# Altium footprint library NB.PcbLib: 18 footprints (part 1 of 2)
Each footprint in its own frame and in the unit in brackets; x right, y up, seen from the top. Pads: shape width x height; smd on the part's side, far side on the other; paste and mask are expansions set on the pad; w line width, h text height; cw(c..) or ccw(c..) is an arc to the next point about the centre after c.
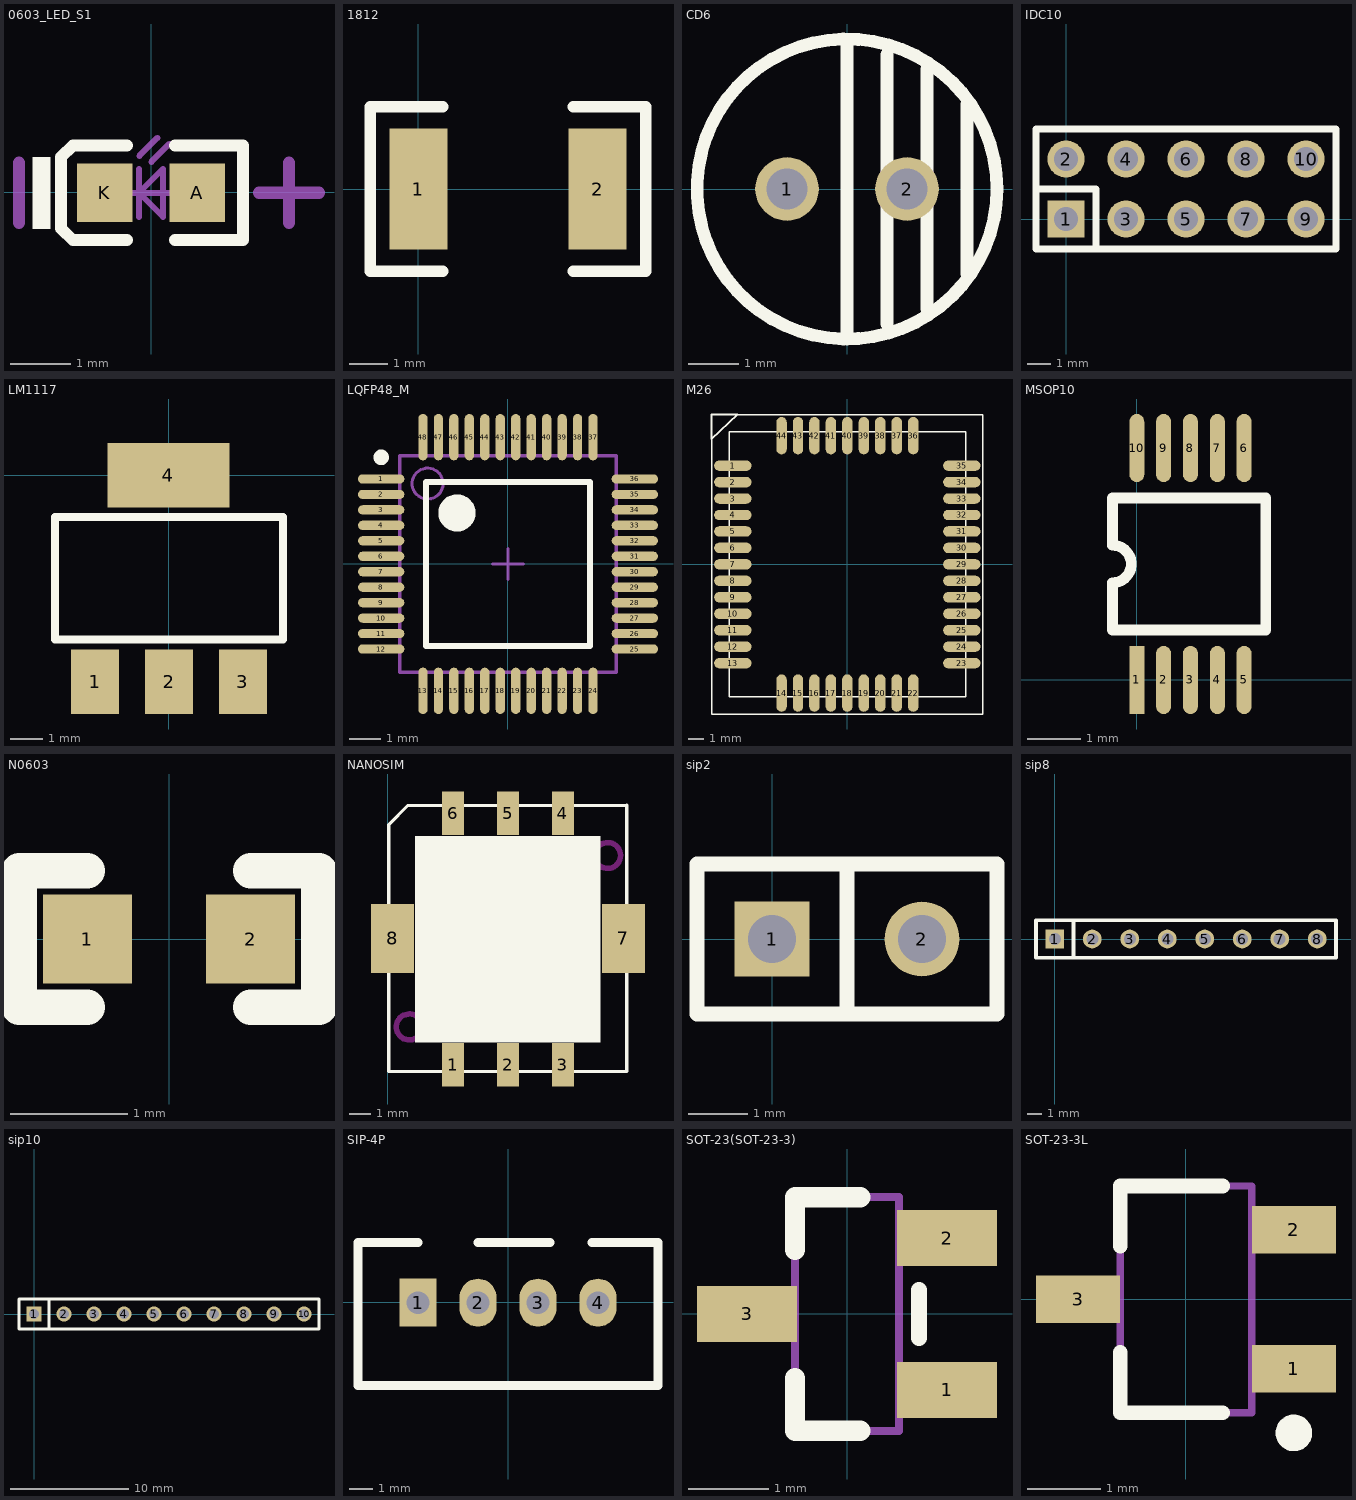
[diagram p0: the footprints below, top view; thin cyan lines are the x and y axes]

## 0603_LED_S1 [mm]
pads (2):
  rect 0.93x0.98 smd: A(0.765,-0.013) K(-0.775,-0.013)
Top Overlay:
  rectangle: -1.98,-0.613 -1.68,0.587
  lines w0.2: -0.405,-0.803 -1.305,-0.803 -1.505,-0.61 -1.505,0.584 -1.305,0.777 -0.405,0.777 ; 0.395,-0.803 1.53,-0.803 1.53,0.777 0.395,0.777
Mechanical 13:
  lines w0.1: -0.405,-0.013 0.395,-0.013 ; -0.205,-0.413 -0.205,0.387 ; -0.2,0.604 0.1,0.904 ; 0,0.504 0.3,0.804 ; -0.205,-0.013 0.195,-0.413 0.195,0.387 -0.205,-0.013
Mechanical 15:
  lines w0.203: -2.205,-0.513 -2.205,0.487 ; 1.795,-0.013 2.795,-0.013 ; 2.295,-0.513 2.295,0.487

## 1812 [mil]
pads (2):
  rect 60x125 smd: 1(0,0) 2(185,0)
Top Overlay:
  lines w12: 25,-85 -50,-85 -50,85 25,85 ; 160,-85 235,-85 235,85 160,85

## CD6 [mm]
pads (2):
  round 1.27 hole 0.813: 1(-1.2,0) 2(1.2,0)
Top Overlay:
  circle w0.254: c0,0 r3
  lines w0.254: 0,-3 0,2.9 ; 0.8,-2.7 0.8,2.692 ; 1.6,-2.4 1.6,2.4 ; 2.4,-1.7 2.4,1.7

## IDC10 [mil]
pads (10):
  rect 62x62 hole 40: 1(0,0)
  round 62 hole 40: 2(0,100) 3(100,0) 4(100,100) 5(200,0) 6(200,100) 7(300,0) 8(300,100) 9(400,0) 10(400,100)
Top Overlay:
  lines w12: -50,50 50,50 50,-50 ; -50,-50 -50,150 450,150 450,-50 -50,-50

## LM1117 [mil]
pads (4):
  rect 59x79 smd: 1(-90.25,-253.18) 2(0.3,-253.18) 3(90.85,-253.18)
  rect 150x79 smd: 4(-0.37,0.37)
Top Overlay:
  lines w10: -139.7,-201.18 -139.7,-51.17 140.3,-51.17 140.3,-201.18 -139.7,-201.18

## LQFP48_M [mm]
pads (48):
  oval 1.5x0.3 smd: 1(-4.099,2.739) 2(-4.099,2.239) 3(-4.099,1.739) 4(-4.099,1.239) 5(-4.099,0.739) 6(-4.099,0.239) 7(-4.099,-0.261) 8(-4.099,-0.761) 9(-4.099,-1.261) 10(-4.099,-1.761) 11(-4.099,-2.261) 12(-4.099,-2.761) 25(4.101,-2.761) 26(4.101,-2.261) 27(4.101,-1.761) 28(4.101,-1.261) 29(4.101,-0.761) 30(4.101,-0.261) 31(4.101,0.239) 32(4.101,0.739) 33(4.101,1.239) 34(4.101,1.739) 35(4.101,2.239) 36(4.101,2.739)
  oval 0.3x1.5 smd: 13(-2.749,-4.111) 14(-2.249,-4.111) 15(-1.749,-4.111) 16(-1.249,-4.111) 17(-0.749,-4.111) 18(-0.249,-4.111) 19(0.251,-4.111) 20(0.751,-4.111) 21(1.251,-4.111) 22(1.751,-4.111) 23(2.251,-4.111) 24(2.751,-4.111) 37(2.751,4.089) 38(2.251,4.089) 39(1.751,4.089) 40(1.251,4.089) 41(0.751,4.089) 42(0.251,4.089) 43(-0.249,4.089) 44(-0.749,4.089) 45(-1.249,4.089) 46(-1.749,4.089) 47(-2.249,4.089) 48(-2.749,4.089)
Top Overlay:
  circle w0.25: c-4.099,3.439 r0.125
  circle w0.6: c-1.649,1.639 r0.3
  lines w0.2: -2.649,-2.661 -2.649,2.639 2.651,2.639 2.651,-2.661 -2.649,-2.661
Mechanical 13:
  circle w0.1: c-2.599,2.589 r0.5
  lines w0.1: -3.499,-3.511 -3.499,3.489 3.501,3.489 3.501,-3.511 -3.499,-3.511
Mechanical 15:
  lines w0.1: -0.499,-0.011 0.501,-0.011 ; 0.001,-0.511 0.001,0.489

## M26 [mm]
pads (44):
  oval 2.5x0.7 smd: 1(-7.65,6.6) 2(-7.65,5.5) 3(-7.65,4.4) 4(-7.65,3.3) 5(-7.65,2.2) 6(-7.65,1.1) 7(-7.65,0) 8(-7.65,-1.1) 9(-7.65,-2.2) 10(-7.65,-3.3) 11(-7.65,-4.4) 12(-7.65,-5.5) 13(-7.65,-6.6) 23(7.65,-6.6) 24(7.65,-5.5) 25(7.65,-4.4) 26(7.65,-3.3) 27(7.65,-2.2) 28(7.65,-1.1) 29(7.65,0) 30(7.65,1.1) 31(7.65,2.2) 32(7.65,3.3) 33(7.65,4.4) 34(7.65,5.5) 35(7.65,6.6)
  oval 0.7x2.5 smd: 14(-4.4,-8.6) 15(-3.3,-8.6) 16(-2.2,-8.6) 17(-1.1,-8.6) 18(0,-8.6) 19(1.1,-8.6) 20(2.2,-8.6) 21(3.3,-8.6) 22(4.4,-8.6) 36(4.4,8.6) 37(3.3,8.6) 38(2.2,8.6) 39(1.1,8.6) 40(0,8.6) 41(-1.1,8.6) 42(-2.2,8.6) 43(-3.3,8.6) 44(-4.4,8.6)
Top Overlay:
  lines w0.1: -9.1,8.352 -9.1,10.05 -7.339,10.05 -9.1,8.352 ; -9.05,-10 -9.05,10 9.05,10 9.05,-10 -9.05,-10 ; -7.9,-8.85 -7.9,8.85 7.9,8.85 7.9,-8.85 -7.9,-8.85

## MSOP10 [mil]
pads (10):
  rect 11x50 smd: 1(0,0)
  oval 11x50 smd: 2(19.68,0) 3(39.37,0) 4(59.06,0) 5(78.74,0) 6(78.74,170) 7(59.06,170) 8(39.37,170) 9(19.68,170) 10(0,170)
Top Overlay:
  lines w7.87: -17.8,36.65 -17.8,71.22 ccw(c-17.8,85) -17.8,98.78 -17.8,133.35 94.57,133.35 94.57,36.65 -17.8,36.65

## N0603 [mil]
pads (2):
  rect 30x30 smd: 1(-27.5,0) 2(27.5,0)
Top Overlay:
  lines w12: -27.5,-23 -50.5,-23 -50.5,23 -27.5,23 ; 27.5,-23 50.5,-23 50.5,23 27.5,23

## NANOSIM [mm]
pads (8):
  rect 1x2 smd: 1(3.023,2.667) 2(5.563,2.667) 3(8.103,2.667) 4(8.103,14.3) 5(5.563,14.3) 6(3.023,14.3)
  rect 2x3.2 smd: 7(10.897,8.509) 8(0.229,8.509)
Top Overlay:
  rectangle: 1.27,3.708 9.83,13.233
  lines w0.152: 11.049,2.362 11.049,14.662 ; 11.049,14.656 0.94,14.656 0.051,13.767 0.051,2.362 11.051,2.362
Keep-Out Layer:
  circle w0.254: c10.17,12.344 r0.6
  circle w0.254: c1,4.42 r0.6

## sip2 [mil]
pads (2):
  rect 50x50 hole 32: 1(0,0)
  round 50 hole 32: 2(100,0)
Top Overlay:
  lines w10: 50,-50 50,50 ; -50,-50 150,-50 150,50 -50,50 -50,-50

## sip8 [mil]
pads (8):
  rect 50x50 hole 32: 1(0,0)
  round 50 hole 32: 2(100,0) 3(200,0) 4(300,0) 5(400,0) 6(500,0) 7(600,0) 8(700,0)
Top Overlay:
  lines w10: 50,-50 50,50 ; -50,-50 -50,50 750,50 750,-50 -50,-50

## sip10 [mil]
pads (10):
  rect 50x50 hole 32: 1(0,0)
  round 50 hole 32: 2(100,0) 3(200,0) 4(300,0) 5(400,0) 6(500,0) 7(600,0) 8(700,0) 9(800,0) 10(900,0)
Top Overlay:
  lines w10: 50,-50 50,50 ; -50,-50 950,-50 950,50 -50,50 -50,-50

## SIP-4P [mil]
pads (4):
  rect 62x80 hole 38: 1(-150.72,-0.41)
  oval 62x80 hole 38: 2(-50.72,-0.41) 3(49.28,-0.41) 4(149.28,-0.41)
Top Overlay:
  lines w15: -150.72,99.59 -250.72,99.59 -250.72,-138.2 249.28,-138.2 249.28,99.59 139.28,99.59 ; -50.72,99.59 69.28,99.59

## SOT-23(SOT-23-3) [mm]
pads (3):
  rect 1.25x0.7 smd: 1(1.25,-0.95) 2(1.25,0.95) 3(-1.25,0)
Top Overlay:
  lines w0.2: 0.9,-0.3 0.9,0.3
  lines w0.254: -0.65,-0.8 -0.65,-1.46 0.165,-1.46 ; 0.165,1.46 -0.65,1.46 ; -0.65,0.8 -0.65,1.46 ; -0.65,0.8 -0.65,1.46 ; -0.65,0.8 -0.65,1.46
Mechanical 13:
  lines w0.1: -0.65,-1.46 -0.65,1.46 ; -0.65,-1.46 0.65,-1.46 ; -0.65,-1.46 0.65,-1.46 ; -0.65,-1.46 -0.65,1.46 ; -0.65,-1.46 0.65,-1.46 ; -0.65,-1.46 -0.65,1.46 ; -0.65,1.46 0.65,1.46 ; -0.65,1.46 0.65,1.46 ; -0.65,1.46 0.65,1.46 ; 0.65,-1.46 0.65,1.46 ; 0.65,-1.46 0.65,1.46 ; 0.65,-1.46 0.65,1.46

## SOT-23-3L [mm]
pads (3):
  rect 1.15x0.65 smd: 1(1.475,-0.95) 2(1.475,0.95) 3(-1.475,0)
Top Overlay:
  circle w0.25: c1.475,-1.825 r0.125
  lines w0.2: -0.9,-0.725 -0.9,-1.55 0.5,-1.55 ; -0.9,0.725 -0.9,1.55 0.5,1.55
Mechanical 13:
  lines w0.1: -0.9,-1.55 -0.9,1.55 0.9,1.55 0.9,-1.55 -0.9,-1.55